# EAGLE library part ADC084S101 (library BMS Lbr)
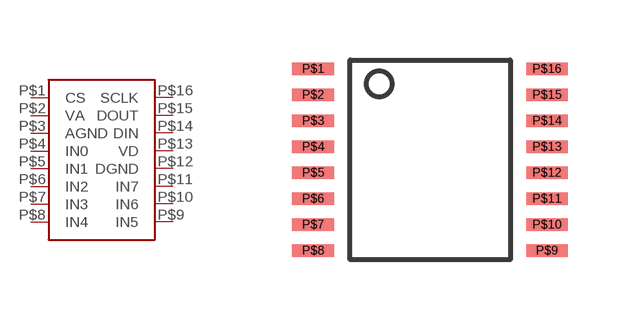
[diagram p6: symbol with the pads of TSSOP-16; footprint TSSOP-16]

Designator prefix -

## ADC084S101  [TSSOP-16]
P$1  CS
P$2  VA
P$3  AGND
P$4  IN0
P$5  IN1
P$6  IN2
P$7  IN3
P$8  IN4
P$9  IN5
P$10  IN6
P$11  IN7
P$12  DGND
P$13  VD
P$14  DIN
P$15  DOUT
P$16  SCLK

## Footprint TSSOP-16 (pad centres in mm)
smd 1.05 x 0.32: P$1 -2.925,2.275; P$2 -2.925,1.625; P$3 -2.925,0.975; P$4 -2.925,0.325; P$5 -2.925,-0.325; P$6 -2.925,-0.975; P$7 -2.925,-1.625; P$8 -2.925,-2.275; P$9 2.925,-2.275; P$10 2.925,-1.625; P$11 2.925,-0.975; P$12 2.925,-0.325; P$13 2.925,0.325; P$14 2.925,0.975; P$15 2.925,1.625; P$16 2.925,2.275